# Altium integrated library 1-776280-1.IntLib: 1 symbol
Pins are listed as number, name and electrical type; pins without a type are passive.

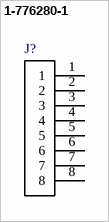
[diagram p0: symbol 1-776280-1]

## 1-776280-1
designator J?  (value not drawn)
/ AMPSEAL 8 Position Three Row 0.157 inch Right Angle Sealed Pin Header /; MF: TE Connectivity; TE_purchase_URL: https://www.te.com/usa-en/product-1-776280-1.html?te_bu=Cor&te_type=disp&te_campaign=seda_glo_cor-seda-global-disp-prtnr-fy19-seda-model-bom-cta_sma-317_1&elqCampaignId=32493; Digi-Key_Purchase_URL: https://www.digikey.com/product-detail/en/te-connectivity-deutsch-connectors/1-776280-1/1734-1-776280-1-ND/5428578?utm_source=snapeda&utm_medium=aggregator&utm_campaign=symbol; Digi-Key_Part_Number: 1734-1-776280-1-ND; Package: None; MP: 1-776280-1; EU_RoHS_Compliance: Compliant; SnapEDA_Link: https://www.snapeda.com/parts/1-776280-1/TE%20Connectivity%20AMP%20Connectors/view-part/1263371/?ref=snap; Value: *
footprint *TE_1-776280-1
pins: 1, 2, 3, 4, 5, 6, 7, 8